# Altium schematic symbol library WE-HCM.SchLib: 78 symbols (part 2 of 2)
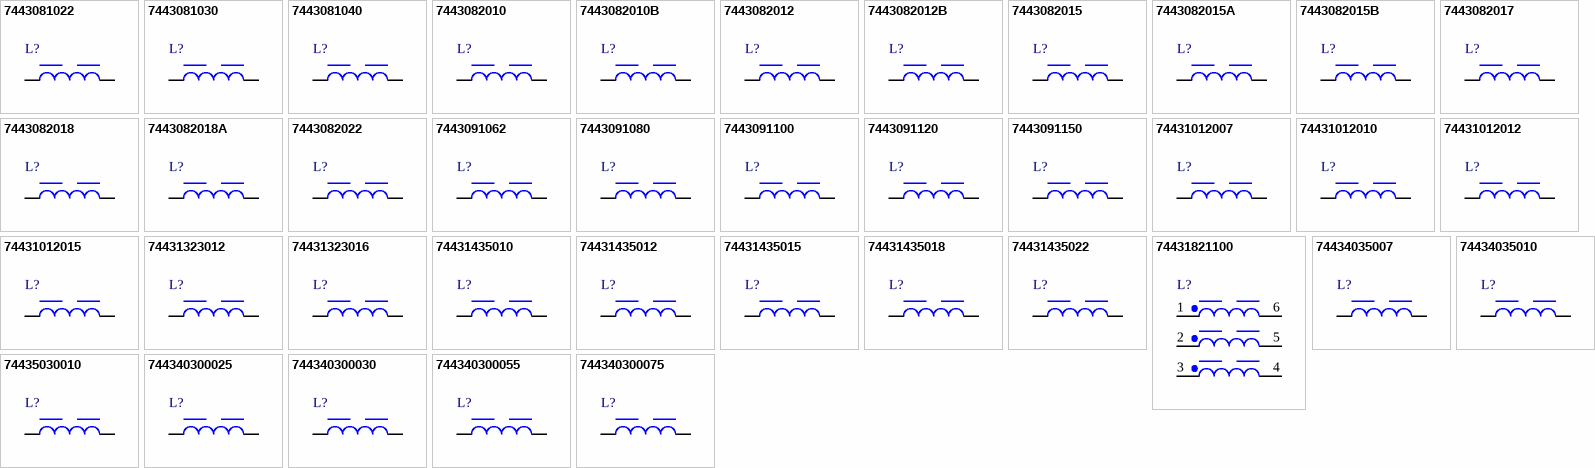
[diagram p2: symbols 7443081022 to 744340300075]

## 7443082018A
designator L?, comment 0.18μH, 65A  (value not drawn)
WE-HCM SMT High Current Flat Wire Inductor, size 1088A, 0.18μH, 65A, 0.15mΩ; Manufacturer Part Number: 7443082018A; Manufacturer: Wurth Elektronik; Material: MnZn; Rated Inductance: 0.157μH; Saturation Current @ 10%: 63.9A; Saturation Current @ 30%: 72.7A; Self Resonant Frequency: 47MHz; Category: Power Inductors; Match Code: WE-HCM; ComponentLink1Description: Website Link; ComponentLink1URL: https://www.we-online.com/redexpert/article/7443082018A?ad; ComponentLink2Description: Datasheet Link; ComponentLink2URL: https://www.we-online.com/redexpert/spec/7443082018A?ad; Mount: Surface Mount; Min Operating Temperature: -40°C; Max Operating Temperature: 125°C; Packaging: Tape and Reel; Case/Size Code: 1088A; Length: 10.2mm; Width: 8.1mm; Height: 8.1mm; DC Resistance: 0.15mΩ; Inductance: 0.18μH; Rated Current: 65A
footprint WE-HCM_1088A
simulation model 1088_7443082018A_0.18u
pins: 1, 2

## 7443082022
designator L?, comment 0.22μH, 60A  (value not drawn)
WE-HCM SMT High Current Flat Wire Inductor, size 1088, 0.22μH, 60A, 0.18mΩ; Manufacturer Part Number: 7443082022; Manufacturer: Wurth Elektronik; Case/Size Code: 1088; Material: MnZn; Rated Inductance: 0.154μH; Saturation Current @ 10%: 52.7A; Saturation Current @ 30%: 59.3A; Self Resonant Frequency: 52MHz; Category: Power Inductors; Match Code: WE-HCM; ComponentLink1Description: Website Link; ComponentLink1URL: https://www.we-online.com/redexpert/article/7443082022?ad; ComponentLink2Description: Datasheet Link; ComponentLink2URL: https://www.we-online.com/redexpert/spec/7443082022?ad; Mount: Surface Mount; Min Operating Temperature: -40°C; Max Operating Temperature: 125°C; Packaging: Tape and Reel; Length: 10.2mm; Width: 8mm; Height: 8.1mm; DC Resistance: 0.18mΩ; Inductance: 0.22μH; Rated Current: 60A
footprint WE-HCM_1088
simulation model 1088_7443082022_0.22u
pins: 1, 2

## 7443091062
designator L?, comment 0.62μH, 34A  (value not drawn)
WE-HCM SMT High Current Flat Wire Inductor, size 1411, 0.62μH, 34A, 0.42mΩ; Manufacturer Part Number: 7443091062; Manufacturer: Wurth Elektronik; Case/Size Code: 1411; Material: MnZn; Saturation Current @ 10%: 68.4A; Saturation Current @ 30%: 74A; Self Resonant Frequency: 25MHz; Category: Power Inductors; Match Code: WE-HCM; ComponentLink1Description: Website Link; ComponentLink1URL: https://www.we-online.com/redexpert/article/7443091062?ad; ComponentLink2Description: Datasheet Link; ComponentLink2URL: https://www.we-online.com/redexpert/spec/7443091062?ad; Mount: Surface Mount; Min Operating Temperature: -40°C; Max Operating Temperature: 125°C; Packaging: Tape and Reel; Length: 14.5mm; Width: 13.5mm; Height: 10.7mm; DC Resistance: 0.42mΩ; Inductance: 0.62μH; Rated Current: 34A; Rated Inductance: 0.62μH
footprint WE-HCM_1411
simulation model 1411_7443091062_0.62u
pins: 1, 2

## 7443091080
designator L?, comment 0.8μH, 34A  (value not drawn)
WE-HCM SMT High Current Flat Wire Inductor, size 1411, 0.8μH, 34A, 0.42mΩ; Manufacturer Part Number: 7443091080; Manufacturer: Wurth Elektronik; Case/Size Code: 1411; Material: MnZn; Rated Inductance: 0.78μH; Saturation Current @ 10%: 53.1A; Saturation Current @ 30%: 58.5A; Self Resonant Frequency: 21MHz; Category: Power Inductors; Match Code: WE-HCM; ComponentLink1Description: Website Link; ComponentLink1URL: https://www.we-online.com/redexpert/article/7443091080?ad; ComponentLink2Description: Datasheet Link; ComponentLink2URL: https://www.we-online.com/redexpert/spec/7443091080?ad; Mount: Surface Mount; Min Operating Temperature: -40°C; Max Operating Temperature: 125°C; Packaging: Tape and Reel; Length: 14.5mm; Width: 13.5mm; Height: 10.7mm; DC Resistance: 0.42mΩ; Inductance: 0.8μH; Rated Current: 34A
footprint WE-HCM_1411
simulation model 1411_7443091080_0.8u
pins: 1, 2

## 7443091100
designator L?, comment 1μH, 34A  (value not drawn)
WE-HCM SMT High Current Flat Wire Inductor, size 1411, 1μH, 34A, 0.42mΩ; Manufacturer Part Number: 7443091100; Manufacturer: Wurth Elektronik; Case/Size Code: 1411; Material: MnZn; Rated Inductance: 0.95μH; Saturation Current @ 10%: 38.5A; Saturation Current @ 30%: 43.5A; Self Resonant Frequency: 18MHz; Category: Power Inductors; Match Code: WE-HCM; ComponentLink1Description: Website Link; ComponentLink1URL: https://www.we-online.com/redexpert/article/7443091100?ad; ComponentLink2Description: Datasheet Link; ComponentLink2URL: https://www.we-online.com/redexpert/spec/7443091100?ad; Mount: Surface Mount; Min Operating Temperature: -40°C; Max Operating Temperature: 125°C; Packaging: Tape and Reel; Length: 14.5mm; Width: 13.5mm; Height: 10.7mm; DC Resistance: 0.42mΩ; Inductance: 1μH; Rated Current: 34A
footprint WE-HCM_1411
simulation model 1411_7443091100_1u
pins: 1, 2

## 7443091120
designator L?, comment 1.2μH, 34A  (value not drawn)
WE-HCM SMT High Current Flat Wire Inductor, size 1411, 1.2μH, 34A, 0.42mΩ; Manufacturer Part Number: 7443091120; Manufacturer: Wurth Elektronik; Case/Size Code: 1411; Material: MnZn; Rated Inductance: 1.02μH; Saturation Current @ 10%: 32.2A; Saturation Current @ 30%: 38.3A; Self Resonant Frequency: 16MHz; Category: Power Inductors; Match Code: WE-HCM; ComponentLink1Description: Website Link; ComponentLink1URL: https://www.we-online.com/redexpert/article/7443091120?ad; ComponentLink2Description: Datasheet Link; ComponentLink2URL: https://www.we-online.com/redexpert/spec/7443091120?ad; Mount: Surface Mount; Min Operating Temperature: -40°C; Max Operating Temperature: 125°C; Packaging: Tape and Reel; Length: 14.5mm; Width: 13.5mm; Height: 10.7mm; DC Resistance: 0.42mΩ; Inductance: 1.2μH; Rated Current: 34A
footprint WE-HCM_1411
simulation model 1411_7443091120_1.2u
pins: 1, 2

## 7443091150
designator L?, comment 1.5μH, 34A  (value not drawn)
WE-HCM SMT High Current Flat Wire Inductor, size 1411, 1.5μH, 34A, 0.42mΩ; Manufacturer Part Number: 7443091150; Manufacturer: Wurth Elektronik; Case/Size Code: 1411; Material: MnZn; Rated Inductance: 0.18μH; Saturation Current @ 10%: 22.5A; Saturation Current @ 30%: 27.1A; Self Resonant Frequency: 15MHz; Category: Power Inductors; Match Code: WE-HCM; ComponentLink1Description: Website Link; ComponentLink1URL: https://www.we-online.com/redexpert/article/7443091150?ad; ComponentLink2Description: Datasheet Link; ComponentLink2URL: https://www.we-online.com/redexpert/spec/7443091150?ad; Mount: Surface Mount; Min Operating Temperature: -40°C; Max Operating Temperature: 125°C; Packaging: Tape and Reel; Length: 14.5mm; Width: 13.5mm; Height: 10.7mm; DC Resistance: 0.42mΩ; Inductance: 1.5μH; Rated Current: 34A
footprint WE-HCM_1411
simulation model 1411_7443091150_1.5u
pins: 1, 2

## 74431012007
designator L?, comment 0.07μH, 37A  (value not drawn)
WE-HCM SMT High Current Flat Wire Inductor, size 1012, 0.07μH, 37A, 0.125mΩ; Manufacturer Part Number: 74431012007; Manufacturer: Wurth Elektronik; Case/Size Code: 1012; Material: MnZn; Rated Inductance: 0.069μH; Saturation Current @ 10%: 125A; Self Resonant Frequency: 149MHz; Category: Power Inductors; Match Code: WE-HCM; ComponentLink1Description: Website Link; ComponentLink1URL: https://www.we-online.com/redexpert/article/74431012007?ad; ComponentLink2Description: Datasheet Link; ComponentLink2URL: https://www.we-online.com/redexpert/spec/74431012007?ad; Mount: Surface Mount; Min Operating Temperature: -40°C; Max Operating Temperature: 125°C; Packaging: Tape and Reel; Length: 10mm; Width: 6mm; Height: 12mm; DC Resistance: 0.125mΩ; Inductance: 0.07μH; Rated Current: 37A; Saturation Current @ 30%: 125A
footprint WE-HCM_1012
simulation model 1012_74431012007_0.07u
pins: 1, 2

## 74431012010
designator L?, comment 0.1μH, 37A  (value not drawn)
WE-HCM SMT High Current Flat Wire Inductor, size 1012, 0.1μH, 37A, 0.125mΩ; Manufacturer Part Number: 74431012010; Manufacturer: Wurth Elektronik; Case/Size Code: 1012; Material: MnZn; Rated Inductance: 0.099μH; Saturation Current @ 10%: 125A; Self Resonant Frequency: 80MHz; Category: Power Inductors; Match Code: WE-HCM; ComponentLink1Description: Website Link; ComponentLink1URL: https://www.we-online.com/redexpert/article/74431012010?ad; ComponentLink2Description: Datasheet Link; ComponentLink2URL: https://www.we-online.com/redexpert/spec/74431012010?ad; Mount: Surface Mount; Min Operating Temperature: -40°C; Max Operating Temperature: 125°C; Packaging: Tape and Reel; Length: 10mm; Width: 6mm; Height: 12mm; DC Resistance: 0.125mΩ; Inductance: 0.1μH; Rated Current: 37A; Saturation Current @ 30%: 125A
footprint WE-HCM_1012
simulation model 1012_74431012010_0.1u
pins: 1, 2

## 74431012012
designator L?, comment 0.12μH, 37A  (value not drawn)
WE-HCM SMT High Current Flat Wire Inductor, size 1012, 0.12μH, 37A, 0.125mΩ; Manufacturer Part Number: 74431012012; Manufacturer: Wurth Elektronik; Case/Size Code: 1012; Material: MnZn; Rated Inductance: 0.119μH; Saturation Current @ 10%: 121.1A; Saturation Current @ 30%: 125A; Self Resonant Frequency: 75MHz; Category: Power Inductors; Match Code: WE-HCM; ComponentLink1Description: Website Link; ComponentLink1URL: https://www.we-online.com/redexpert/article/74431012012?ad; ComponentLink2Description: Datasheet Link; ComponentLink2URL: https://www.we-online.com/redexpert/spec/74431012012?ad; Mount: Surface Mount; Min Operating Temperature: -40°C; Max Operating Temperature: 125°C; Packaging: Tape and Reel; Length: 10mm; Width: 6mm; Height: 12mm; DC Resistance: 0.125mΩ; Inductance: 0.12μH; Rated Current: 37A
footprint WE-HCM_1012
simulation model 1012_74431012012_0.12u
pins: 1, 2

## 74431012015
designator L?, comment 0.15μH, 37A  (value not drawn)
WE-HCM SMT High Current Flat Wire Inductor, size 1012, 0.15μH, 37A, 0.125mΩ; Manufacturer Part Number: 74431012015; Manufacturer: Wurth Elektronik; Case/Size Code: 1012; Material: MnZn; Rated Inductance: 0.144μH; Saturation Current @ 10%: 99.4A; Saturation Current @ 30%: 108.4A; Self Resonant Frequency: 70MHz; Category: Power Inductors; Match Code: WE-HCM; ComponentLink1Description: Website Link; ComponentLink1URL: https://www.we-online.com/redexpert/article/74431012015?ad; ComponentLink2Description: Datasheet Link; ComponentLink2URL: https://www.we-online.com/redexpert/spec/74431012015?ad; Mount: Surface Mount; Min Operating Temperature: -40°C; Max Operating Temperature: 125°C; Packaging: Tape and Reel; Length: 10mm; Width: 6mm; Height: 12mm; DC Resistance: 0.125mΩ; Inductance: 0.15μH; Rated Current: 37A
footprint WE-HCM_1012
simulation model 1012_74431012015_0.15u
pins: 1, 2

## 74431323012
designator L?, comment 0.12μH, 26A  (value not drawn)
WE-HCM SMT High Current Flat Wire Inductor, size 1323, 0.12μH, 26A, 0.7mΩ; Manufacturer Part Number: 74431323012; Manufacturer: Wurth Elektronik; Case/Size Code: 1323; Material: MnZn; Rated Inductance: 0.117μH; Saturation Current @ 10%: 40.1A; Saturation Current @ 30%: 47.8A; Self Resonant Frequency: 120MHz; Category: Power Inductors; Match Code: WE-HCM; ComponentLink1Description: Website Link; ComponentLink1URL: https://www.we-online.com/redexpert/article/74431323012?ad; ComponentLink2Description: Datasheet Link; ComponentLink2URL: https://www.we-online.com/redexpert/spec/74431323012?ad; Mount: Surface Mount; Min Operating Temperature: -40°C; Max Operating Temperature: 125°C; Packaging: Tape and Reel; Length: 13mm; Width: 10.5mm; Height: 2.3mm; DC Resistance: 0.7mΩ; Inductance: 0.12μH; Rated Current: 26A
footprint WE-HCM_1323
simulation model 1323_74431323012_0.12u
pins: 1, 2

## 74431323016
designator L?, comment 0.16μH, 26A  (value not drawn)
WE-HCM SMT High Current Flat Wire Inductor, size 1323, 0.16μH, 26A, 0.7mΩ; Manufacturer Part Number: 74431323016; Manufacturer: Wurth Elektronik; Case/Size Code: 1323; Material: MnZn; Rated Inductance: 0.149μH; Saturation Current @ 10%: 28.9A; Saturation Current @ 30%: 35.1A; Self Resonant Frequency: 113MHz; Category: Power Inductors; Match Code: WE-HCM; ComponentLink1Description: Website Link; ComponentLink1URL: https://www.we-online.com/redexpert/article/74431323016?ad; ComponentLink2Description: Datasheet Link; ComponentLink2URL: https://www.we-online.com/redexpert/spec/74431323016?ad; Mount: Surface Mount; Min Operating Temperature: -40°C; Max Operating Temperature: 125°C; Packaging: Tape and Reel; Length: 13mm; Width: 10.5mm; Height: 2.3mm; DC Resistance: 0.7mΩ; Inductance: 0.16μH; Rated Current: 26A
footprint WE-HCM_1323
simulation model 1323_74431323016_0.16u
pins: 1, 2

## 74431435010
designator L?, comment 0.1μH, 31A  (value not drawn)
WE-HCM SMT High Current Flat Wire Inductor, size 1435, 0.1μH, 31A, 0.28mΩ; Manufacturer Part Number: 74431435010; Manufacturer: Wurth Elektronik; Case/Size Code: 1435; Material: MnZn; Rated Inductance: 0.099μH; Saturation Current @ 10%: 72.5A; Saturation Current @ 30%: 82.6A; Self Resonant Frequency: 87MHz; Category: Power Inductors; Match Code: WE-HCM; ComponentLink1Description: Website Link; ComponentLink1URL: https://www.we-online.com/redexpert/article/74431435010?ad; ComponentLink2Description: Datasheet Link; ComponentLink2URL: https://www.we-online.com/redexpert/spec/74431435010?ad; Mount: Surface Mount; Min Operating Temperature: -40°C; Max Operating Temperature: 125°C; Packaging: Tape and Reel; Length: 13.5mm; Width: 13.65mm; Height: 3.5mm; DC Resistance: 0.28mΩ; Inductance: 0.1μH; Rated Current: 31A
footprint WE-HCM_1435
simulation model 1435_74431435010_0.1u
pins: 1, 2

## 74431435012
designator L?, comment 0.12μH, 31A  (value not drawn)
WE-HCM SMT High Current Flat Wire Inductor, size 1435, 0.12μH, 31A, 0.28mΩ; Manufacturer Part Number: 74431435012; Manufacturer: Wurth Elektronik; Case/Size Code: 1435; Material: MnZn; Rated Inductance: 0.119μH; Saturation Current @ 10%: 62.7A; Saturation Current @ 30%: 71.3A; Self Resonant Frequency: 85MHz; Category: Power Inductors; Match Code: WE-HCM; ComponentLink1Description: Website Link; ComponentLink1URL: https://www.we-online.com/redexpert/article/74431435012?ad; ComponentLink2Description: Datasheet Link; ComponentLink2URL: https://www.we-online.com/redexpert/spec/74431435012?ad; Mount: Surface Mount; Min Operating Temperature: -40°C; Max Operating Temperature: 125°C; Packaging: Tape and Reel; Length: 13.5mm; Width: 13.65mm; Height: 3.5mm; DC Resistance: 0.28mΩ; Inductance: 0.12μH; Rated Current: 31A
footprint WE-HCM_1435
simulation model 1435_74431435012_0.12u
pins: 1, 2

## 74431435015
designator L?, comment 0.15μH, 31A  (value not drawn)
WE-HCM SMT High Current Flat Wire Inductor, size 1435, 0.15μH, 31A, 0.28mΩ; Manufacturer Part Number: 74431435015; Manufacturer: Wurth Elektronik; Case/Size Code: 1435; Material: MnZn; Rated Inductance: 0.147μH; Saturation Current @ 10%: 55.8A; Saturation Current @ 30%: 64.8A; Self Resonant Frequency: 84MHz; Category: Power Inductors; Match Code: WE-HCM; ComponentLink1Description: Website Link; ComponentLink1URL: https://www.we-online.com/redexpert/article/74431435015?ad; ComponentLink2Description: Datasheet Link; ComponentLink2URL: https://www.we-online.com/redexpert/spec/74431435015?ad; Mount: Surface Mount; Min Operating Temperature: -40°C; Max Operating Temperature: 125°C; Packaging: Tape and Reel; Length: 13.5mm; Width: 13.65mm; Height: 3.5mm; DC Resistance: 0.28mΩ; Inductance: 0.15μH; Rated Current: 31A
footprint WE-HCM_1435
simulation model 1435_74431435015_0.15u
pins: 1, 2

## 74431435018
designator L?, comment 0.18μH, 31A  (value not drawn)
WE-HCM SMT High Current Flat Wire Inductor, size 1435, 0.18μH, 31A, 0.28mΩ; Manufacturer Part Number: 74431435018; Manufacturer: Wurth Elektronik; Case/Size Code: 1435; Material: MnZn; Rated Inductance: 0.175μH; Saturation Current @ 10%: 49.7A; Saturation Current @ 30%: 58.4A; Self Resonant Frequency: 63MHz; Category: Power Inductors; Match Code: WE-HCM; ComponentLink1Description: Website Link; ComponentLink1URL: https://www.we-online.com/redexpert/article/74431435018?ad; ComponentLink2Description: Datasheet Link; ComponentLink2URL: https://www.we-online.com/redexpert/spec/74431435018?ad; Mount: Surface Mount; Min Operating Temperature: -40°C; Max Operating Temperature: 125°C; Packaging: Tape and Reel; Length: 13.5mm; Width: 13.65mm; Height: 3.5mm; DC Resistance: 0.28mΩ; Inductance: 0.18μH; Rated Current: 31A
footprint WE-HCM_1435
simulation model 1435_74431435018_0.18u
pins: 1, 2

## 74431435022
designator L?, comment 0.22μH, 31A  (value not drawn)
WE-HCM SMT High Current Flat Wire Inductor, size 1435, 0.22μH, 31A, 0.28mΩ; Manufacturer Part Number: 74431435022; Manufacturer: Wurth Elektronik; Case/Size Code: 1435; Material: MnZn; Rated Inductance: 0.211μH; Saturation Current @ 10%: 37.6A; Saturation Current @ 30%: 43A; Self Resonant Frequency: 60MHz; Category: Power Inductors; Match Code: WE-HCM; ComponentLink1Description: Website Link; ComponentLink1URL: https://www.we-online.com/redexpert/article/74431435022?ad; ComponentLink2Description: Datasheet Link; ComponentLink2URL: https://www.we-online.com/redexpert/spec/74431435022?ad; Mount: Surface Mount; Min Operating Temperature: -40°C; Max Operating Temperature: 125°C; Packaging: Tape and Reel; Length: 13.5mm; Width: 13.65mm; Height: 3.5mm; DC Resistance: 0.28mΩ; Inductance: 0.22μH; Rated Current: 31A
footprint WE-HCM_1435
simulation model 1435_74431435022_0.22u
pins: 1, 2

## 74431821100
designator L?, comment 1μH, 23A  (value not drawn)
WE-HCM SMT High Current Flat Wire Inductor, size 1820, 1μH, 23A, 0.33mΩ; Manufacturer Part Number: 74431821100; Manufacturer: Wurth Elektronik; Case/Size Code: 1820; Material: MnZn; Rated Inductance: 0.1μH; Saturation Current @ 10%: 6.6A; Saturation Current @ 30%: 9.3A; Self Resonant Frequency: 26MHz; Category: Power Inductors; Match Code: WE-HCM; ComponentLink1Description: Website Link; ComponentLink1URL: https://www.we-online.com/redexpert/article/74431821100?ad; ComponentLink2Description: Datasheet Link; ComponentLink2URL: https://www.we-online.com/redexpert/spec/74431821100?ad; Mount: Surface Mount; Min Operating Temperature: -40°C; Max Operating Temperature: 125°C; Packaging: Tape and Reel; Length: 16.4mm; Width: 13.6mm; Height: 2mm; DC Resistance: 0.33mΩ; Inductance: 1μH; Rated Current: 23A
footprint WE-HCM_1820
simulation model 1820_74431821100_1u
pins: 1, 2, 3, 4, 5, 6

## 74434035007
designator L?, comment 0.07μH, 29A  (value not drawn)
WE-HCM SMT High Current Flat Wire Inductor, size 4035, 0.07μH, 29A, 0.38mΩ; Manufacturer Part Number: 74434035007; Manufacturer: Wurth Elektronik; Case/Size Code: 4035; Material: MnZn; Rated Inductance: 0.01μH; Saturation Current @ 10%: 17A; Saturation Current @ 30%: 18.1A; Self Resonant Frequency: 85MHz; Category: Power Inductors; Match Code: WE-HCM; ComponentLink1Description: Website Link; ComponentLink1URL: https://www.we-online.com/redexpert/article/74434035007?ad; ComponentLink2Description: Datasheet Link; ComponentLink2URL: https://www.we-online.com/redexpert/spec/74434035007?ad; Mount: Surface Mount; Min Operating Temperature: -40°C; Max Operating Temperature: 125°C; Packaging: Tape and Reel; Length: 5mm; Width: 3.1mm; Height: 3.5mm; DC Resistance: 0.38mΩ; Inductance: 0.07μH; Rated Current: 29A
footprint WE-HCM_4035_74434035007
simulation model 4035_74434035007_0.07u
pins: 1, 2

## 74434035010
designator L?, comment 0.1μH, 29A  (value not drawn)
WE-HCM SMT High Current Flat Wire Inductor, size 4035, 0.1μH, 29A, 0.38mΩ; Manufacturer Part Number: 74434035010; Manufacturer: Wurth Elektronik; Case/Size Code: 4035; Material: MnZn; Rated Inductance: 0.016μH; Saturation Current @ 10%: 18.1A; Saturation Current @ 30%: 19.1A; Self Resonant Frequency: 69MHz; Category: Power Inductors; Match Code: WE-HCM; ComponentLink1Description: Website Link; ComponentLink1URL: https://www.we-online.com/redexpert/article/74434035010?ad; ComponentLink2Description: Datasheet Link; ComponentLink2URL: https://www.we-online.com/redexpert/spec/74434035010?ad; Mount: Surface Mount; Min Operating Temperature: -40°C; Max Operating Temperature: 125°C; Packaging: Tape and Reel; Length: 5mm; Width: 3.1mm; Height: 3.5mm; DC Resistance: 0.38mΩ; Inductance: 0.1μH; Rated Current: 29A
footprint WE-HCM_4035_74434035010
simulation model 4035_74434035010_0.1u
pins: 1, 2

## 74435030010
designator L?, comment 0.1μH, 27A  (value not drawn)
WE-HCM SMT High Current Flat Wire Inductor, size 5030, 0.1μH, 27A, 0.31mΩ; Manufacturer Part Number: 74435030010; Manufacturer: Wurth Elektronik; Case/Size Code: 5030; Material: MnZn; Rated Inductance: 0.01μH; Saturation Current @ 10%: 18A; Saturation Current @ 30%: 19.1A; Self Resonant Frequency: 83MHz; Category: Power Inductors; Match Code: WE-HCM; ComponentLink1Description: Website Link; ComponentLink1URL: https://www.we-online.com/redexpert/article/74435030010?ad; ComponentLink2Description: Datasheet Link; ComponentLink2URL: https://www.we-online.com/redexpert/spec/74435030010?ad; Mount: Surface Mount; Min Operating Temperature: -40°C; Max Operating Temperature: 125°C; Packaging: Tape and Reel; Length: 5mm; Width: 3.1mm; Height: 3mm; DC Resistance: 0.31mΩ; Inductance: 0.1μH; Rated Current: 27A
footprint WE-HCM_5030
simulation model 5030_74435030010_0.1u
pins: 1, 2

## 744340300025
designator L?, comment 0.025μH, 27A  (value not drawn)
WE-HCM SMT High Current Flat Wire Inductor, size 4030, 0.025μH, 27A, 0.27mΩ; Manufacturer Part Number: 744340300025; Manufacturer: Wurth Elektronik; Case/Size Code: 4030; Material: MnZn; Saturation Current @ 10%: 48.9A; Saturation Current @ 30%: 51A; Self Resonant Frequency: 180MHz; Category: Power Inductors; Match Code: WE-HCM; ComponentLink1Description: Website Link; ComponentLink1URL: https://www.we-online.com/redexpert/article/744340300025?ad; ComponentLink2Description: Datasheet Link; ComponentLink2URL: https://www.we-online.com/redexpert/spec/744340300025?ad; Mount: Surface Mount; Min Operating Temperature: -40°C; Max Operating Temperature: 125°C; Packaging: Tape and Reel; Length: 4.1mm; Width: 3.1mm; Height: 3mm; DC Resistance: 0.27mΩ; Inductance: 0.025μH; Rated Current: 27A; Rated Inductance: 0.025μH
footprint WE-HCM_4030
simulation model 4030_744340300025_0.025u
pins: 1, 2

## 744340300030
designator L?, comment 0.03μH, 27A  (value not drawn)
WE-HCM SMT High Current Flat Wire Inductor, size 4030, 0.03μH, 27A, 0.27mΩ; Manufacturer Part Number: 744340300030; Manufacturer: Wurth Elektronik; Case/Size Code: 4030; Material: MnZn; Rated Inductance: 0.029μH; Saturation Current @ 10%: 47.3A; Saturation Current @ 30%: 50.6A; Self Resonant Frequency: 170MHz; Category: Power Inductors; Match Code: WE-HCM; ComponentLink1Description: Website Link; ComponentLink1URL: https://www.we-online.com/redexpert/article/744340300030?ad; ComponentLink2Description: Datasheet Link; ComponentLink2URL: https://www.we-online.com/redexpert/spec/744340300030?ad; Mount: Surface Mount; Min Operating Temperature: -40°C; Max Operating Temperature: 125°C; Packaging: Tape and Reel; Length: 4.1mm; Width: 3.1mm; Height: 3mm; DC Resistance: 0.27mΩ; Inductance: 0.03μH; Rated Current: 27A
footprint WE-HCM_4030
simulation model 4030_744340300030_0.03u
pins: 1, 2

## 744340300055
designator L?, comment 0.055μH, 27A  (value not drawn)
WE-HCM SMT High Current Flat Wire Inductor, size 4030, 0.055μH, 27A, 0.27mΩ; Manufacturer Part Number: 744340300055; Manufacturer: Wurth Elektronik; Case/Size Code: 4030; Material: MnZn; Saturation Current @ 10%: 23.6A; Saturation Current @ 30%: 25.2A; Self Resonant Frequency: 123MHz; Category: Power Inductors; Match Code: WE-HCM; ComponentLink1Description: Website Link; ComponentLink1URL: https://www.we-online.com/redexpert/article/744340300055?ad; ComponentLink2Description: Datasheet Link; ComponentLink2URL: https://www.we-online.com/redexpert/spec/744340300055?ad; Mount: Surface Mount; Min Operating Temperature: -40°C; Max Operating Temperature: 125°C; Packaging: Tape and Reel; Length: 4.1mm; Width: 3.1mm; Height: 3mm; DC Resistance: 0.27mΩ; Inductance: 0.055μH; Rated Current: 27A; Rated Inductance: 0.055μH
footprint WE-HCM_4030
simulation model 4030_744340300055_0.055u
pins: 1, 2

## 744340300075
designator L?, comment 0.075μH, 27A  (value not drawn)
WE-HCM SMT High Current Flat Wire Inductor, size 4030, 0.075μH, 27A, 0.27mΩ; Manufacturer Part Number: 744340300075; Manufacturer: Wurth Elektronik; Case/Size Code: 4030; Material: MnZn; Saturation Current @ 10%: 18.7A; Saturation Current @ 30%: 23.5A; Self Resonant Frequency: 106MHz; Category: Power Inductors; Match Code: WE-HCM; ComponentLink1Description: Website Link; ComponentLink1URL: https://www.we-online.com/redexpert/article/744340300075?ad; ComponentLink2Description: Datasheet Link; ComponentLink2URL: https://www.we-online.com/redexpert/spec/744340300075?ad; Mount: Surface Mount; Min Operating Temperature: -40°C; Max Operating Temperature: 125°C; Packaging: Tape and Reel; Length: 4.1mm; Width: 3.1mm; Height: 3mm; DC Resistance: 0.27mΩ; Inductance: 0.075μH; Rated Current: 27A; Rated Inductance: 0.075μH
footprint WE-HCM_4030
simulation model 4030_744340300075_0.075u
pins: 1, 2